# Altium footprint library Encoders.PcbLib: 1 footprints
Each footprint in its own frame and in the unit in brackets; x right, y up, seen from the top. Pads: shape width x height; smd on the part's side, far side on the other; paste and mask are expansions set on the pad; w line width, h text height; cw(c..) or ccw(c..) is an arc to the next point about the centre after c.
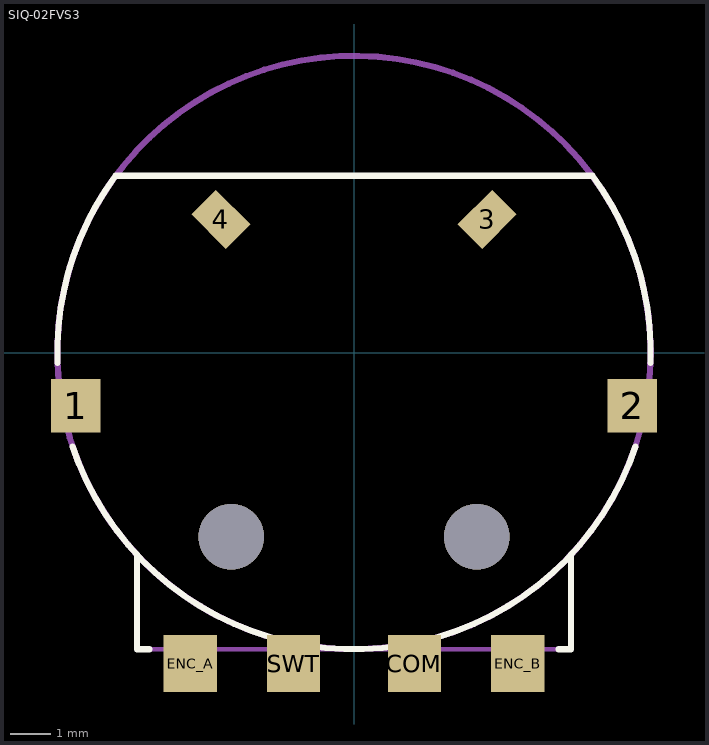
[diagram p0: the footprint, top view; thin cyan lines are the x and y axes]

## SIQ-02FVS3 [mm] "Mechanical encoder with switch"
height 4
pads (8):
  rect 1.2x1.3 smd: 1(-6.8,-1.3) 2(6.8,-1.3)
  rect 1.2x0.85 smd rot 45: 3(3.253,3.253)
  rect 1.2x0.85 smd rot 135: 4(-3.253,3.253)
  rect 1.3x1.4 smd: COM(1.475,-7.6) ENC_A(-4,-7.6) ENC_B(4,-7.6) SWT(-1.475,-7.6)
via 3,-4.5 diameter 1.6 hole 1.6
via -3,-4.5 diameter 1.6 hole 1.6
Top Overlay:
  lines w0.15: -7.246,-0.25 cw(c0,0) -5.824,4.318 5.824,4.318 cw(c0,0) 7.246,-0.25 ; -6.878,-2.293 ccw(c0,0) 6.878,-2.293 ; -5.3,-5 -5.3,-7.25 -5,-7.25 ; 5,-7.25 5.3,-7.25 5.3,-5
Mechanical 13:
  circle w0.15: c0,0 r7.25
  lines w0.1: -5.3,-4.9 -5.3,-7.25 5.3,-7.25 5.3,-4.9